# Altium schematic symbol library UCC27424QDRQ1.SchLib: 1 symbol
Pins are listed as number, name and electrical type; pins without a type are passive.

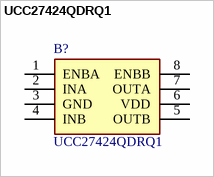
[diagram p0: symbol UCC27424QDRQ1]

## UCC27424QDRQ1
designator B?
Automotive Dual 4A High Speed Low-Side MOSFET Driver With Enable; Manufacturer_Name: Texas Instruments; Geometry.Height: 1.75mm; Mouser Part Number: 595-UCC27424QDRQ1; Mouser Price/Stock: https://www.mouser.co.uk/ProductDetail/Texas-Instruments/UCC27424QDRQ1?qs=3WadRV20yGwTLMr0pUhVuw%3D%3D; Manufacturer_Part_Number: UCC27424QDRQ1; Datasheet Link: http://www.ti.com/lit/gpn/ucc27424-q1
footprint SOIC127P600X175-8N
pins: 1 ENBA, 2 INA, 3 GND, 4 INB, 5 OUTB, 6 VDD, 7 OUTA, 8 ENBB